# EAGLE library part ACCELH3LIS331DL (library AccelH3LIS331DL)
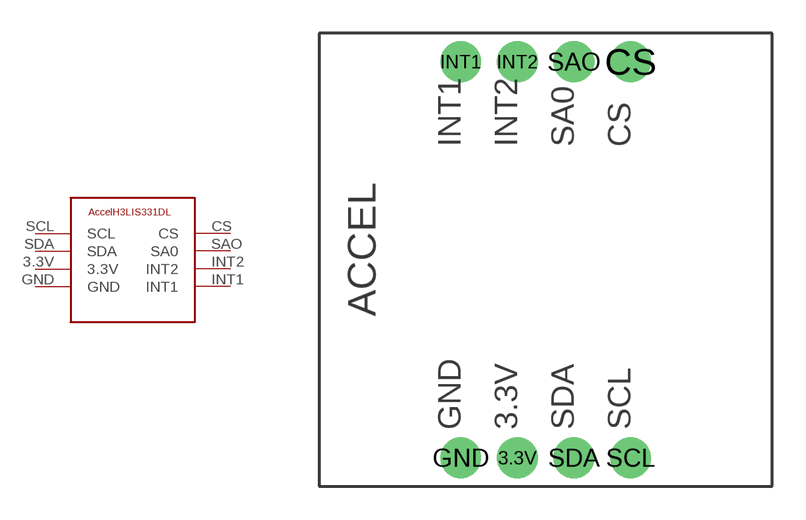
[diagram p0: symbol with the pads of ACCELH3LIS331DL; footprint ACCELH3LIS331DL]

Designator prefix -

## ACCELH3LIS331DL  [ACCELH3LIS331DL]
3.3V  3.3V
CS  CS
GND  GND
INT1  INT1
INT2  INT2
SAO  SA0
SCL  SCL
SDA  SDA

## Footprint ACCELH3LIS331DL (pad centres in mm)
drill 1 pad 1.829: 3.3V 8.89,1.27; CS 13.97,19.05; GND 6.35,1.27; INT1 6.35,19.05; INT2 8.89,19.05; SAO 11.43,19.05; SCL 13.97,1.27; SDA 11.43,1.27